# EAGLE library part MAX2?2 (library steves)
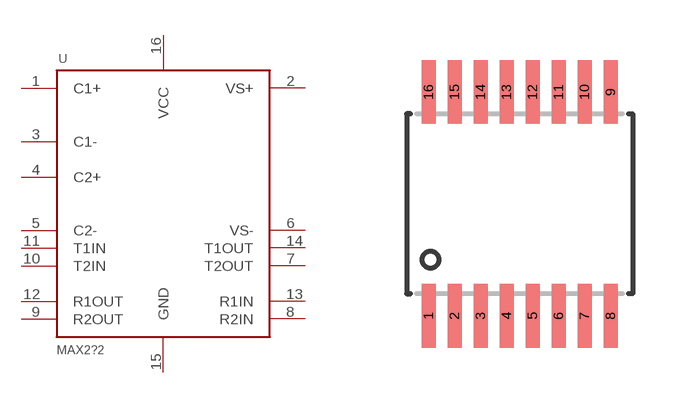
[diagram p16: symbol with the pads of TSSOP-16; footprint TSSOP-16]

Designator prefix -

## MAX2PW2  [TSSOP-16]
1  C1+  in
2  VS+  in
3  C1-  in
4  C2+  in
5  C2-  in
6  VS-  in
7  T2OUT  out
8  R2IN
9  R2OUT  out
10  T2IN
11  T1IN
12  R1OUT  out
13  R1IN
14  T1OUT  out
15  GND  pwr
16  VCC  pwr

## Footprint TSSOP-16 (pad centres in mm)
smd 0.35 x 1.6: 1 -1.95,-2.8; 2 -1.3,-2.8; 3 -0.65,-2.8; 4 0,-2.8; 5 0.65,-2.8; 6 1.3,-2.8; 7 1.95,-2.8; 8 2.6,-2.8; 9 2.6,2.8; 10 1.95,2.8; 11 1.3,2.8; 12 0.65,2.8; 13 0,2.8; 14 -0.65,2.8; 15 -1.3,2.8; 16 -1.95,2.8